# Altium footprint library OSCSC500X320X110-4N.PcbLib: 1 footprints
Each footprint in its own frame and in the unit in brackets; x right, y up, seen from the top. Pads: shape width x height; smd on the part's side, far side on the other; paste and mask are expansions set on the pad; w line width, h text height; cw(c..) or ccw(c..) is an arc to the next point about the centre after c.
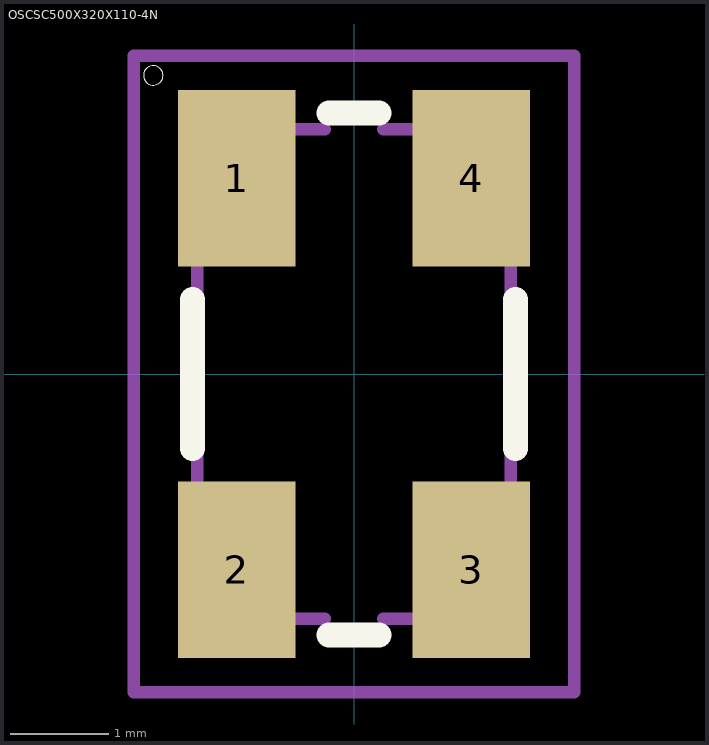
[diagram p0: the footprint, top view; thin cyan lines are the x and y axes]

## OSCSC500X320X110-4N [mm] "ABM3B-8.000MHZ-10-D-1-G-T Abracon 8MHz crystal"
pads (4):
  rect 1.2x1.8 smd: 1(-1.2,2) 2(-1.2,-2) 3(1.2,-2) 4(1.2,2)
Top Overlay:
  circle w0: c-2.05,3.05 r0.1
  lines w0.254: -1.651,-0.762 -1.651,0.762 ; -0.254,-2.667 0.254,-2.667 ; -0.254,2.667 0.254,2.667 ; 1.651,-0.762 1.651,0.762
Mechanical 1:
  lines w0.127: -1.6,-0.8 -1.6,-2.2 cw(c-1.6,-2.5) -1.3,-2.5 -0.3,-2.5 ; -1.6,0.8 -1.6,2.2 ccw(c-1.6,2.5) -1.3,2.5 -0.3,2.5 ; 0.3,-2.5 1.3,-2.5 cw(c1.6,-2.5) 1.6,-2.2 1.6,-0.8 ; 0.3,2.5 1.3,2.5 ccw(c1.6,2.5) 1.6,2.2 1.6,0.8 ; -2.25,-3.25 -2.25,3.25 2.25,3.25 2.25,-3.25 -2.25,-3.25
3D body "ABM3B-8MHz v1.step": height 1.1, standoff -0.01, extent -1.6,-2.5 1.575,2.5